# EAGLE library part TCAN1042HVDR (library ARVP)
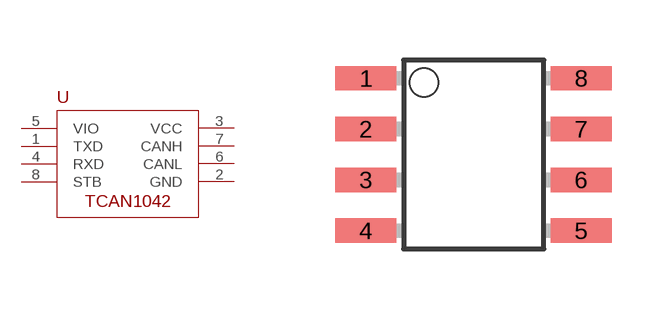
[diagram p27: symbol with the pads of SO-8; footprint SO-8]

Designator prefix U

## TCAN1042HVDR  [SO-8]
1  TXD
2  GND
3  VCC
4  RXD
5  VIO
6  CANL
7  CANH
8  STB

## Footprint SO-8 (pad centres in mm)
SO 8 small outline
smd 1.524 x 0.61: 1 -2.692,1.905; 2 -2.692,0.635; 3 -2.692,-0.635; 4 -2.692,-1.905; 5 2.692,-1.905; 6 2.692,-0.635; 7 2.692,0.635; 8 2.692,1.905